# Altium footprint library 15_to_28_Pin.PcbLib: 36 footprints (part 2 of 3)
Each footprint in its own frame and in the unit in brackets; x right, y up, seen from the top. Pads: shape width x height; smd on the part's side, far side on the other; paste and mask are expansions set on the pad; w line width, h text height; cw(c..) or ccw(c..) is an arc to the next point about the centre after c.
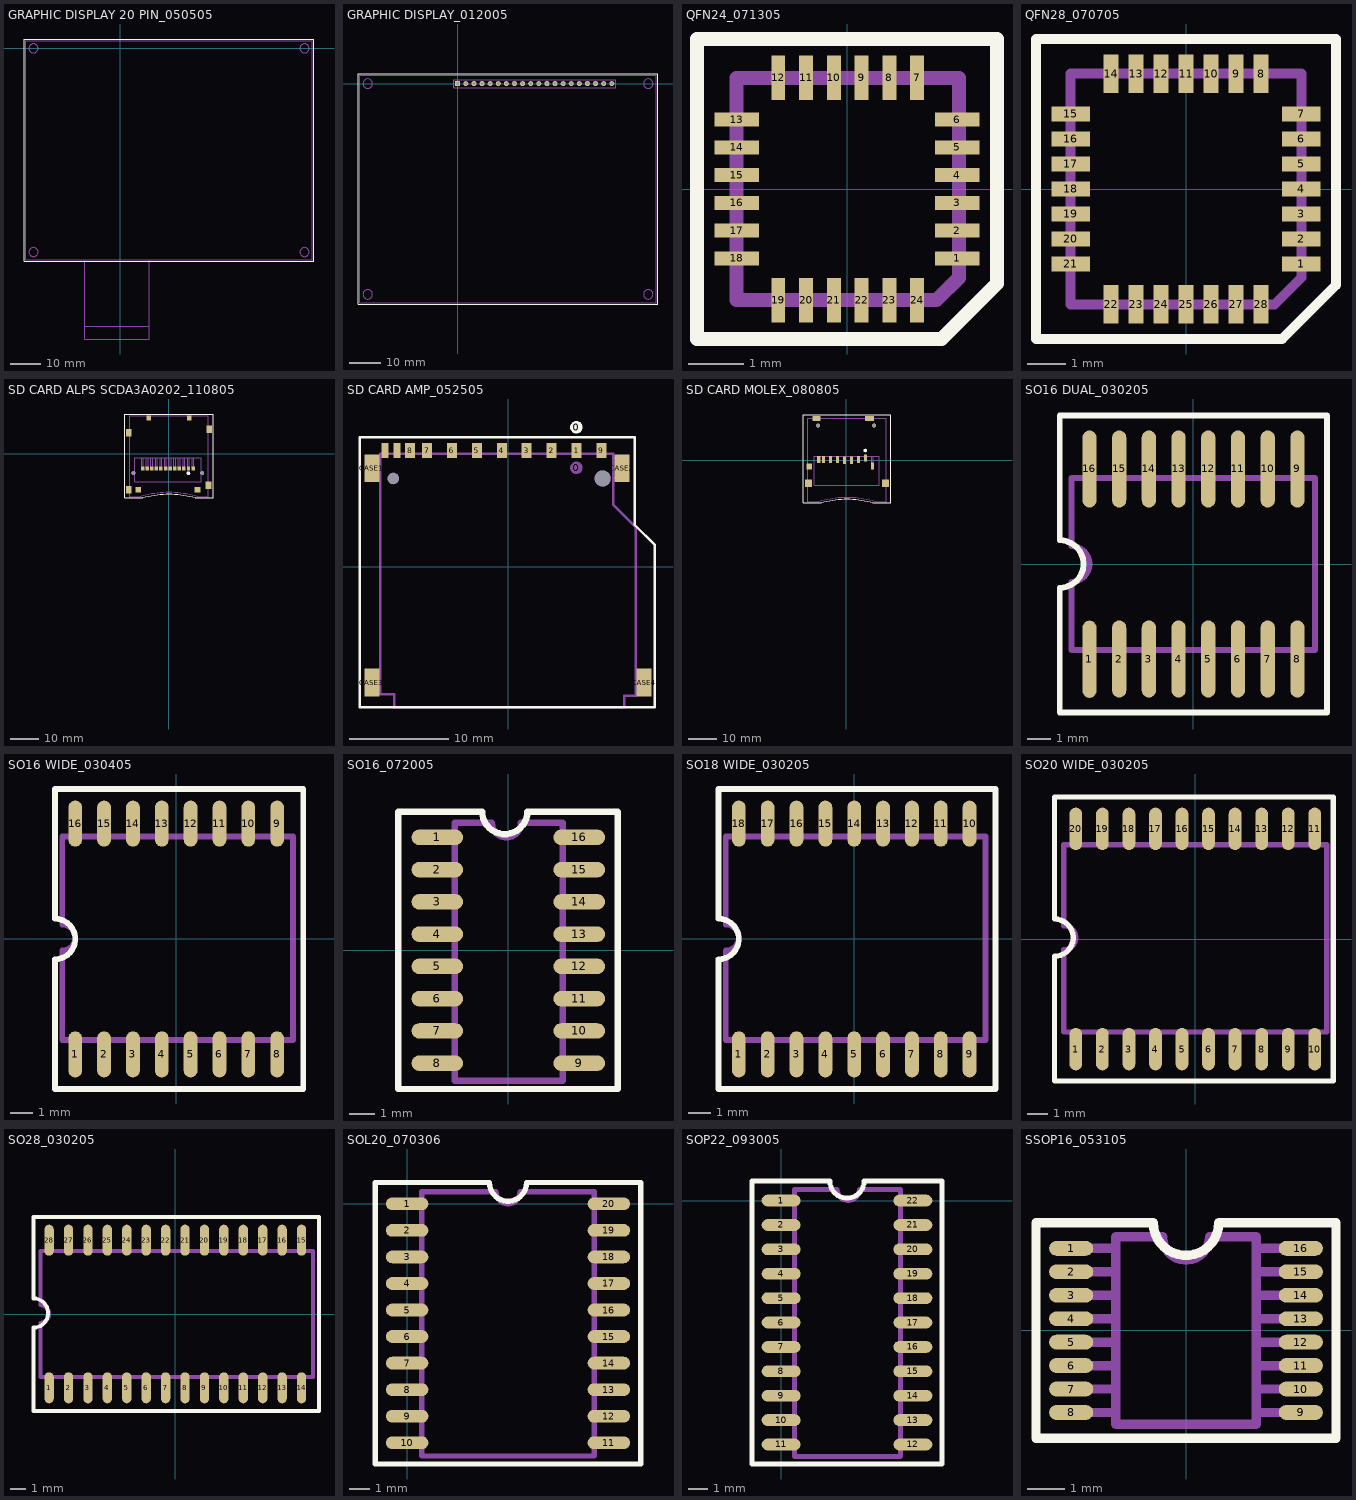
[diagram p1: the footprints below, top view; thin cyan lines are the x and y axes]

## GRAPHIC DISPLAY 20 PIN_050505 [mil] "SMT"
height 375
Top Overlay:
  lines w10: -1230,-2720 -1230,120 -1155,120 2470,120 2470,-2720 -1230,-2720
Assembly Outline:
  circle w10: c-1110,0 r58.66
  circle w10: c-1110,-2600 r58.66
  circle w10: c2350,-2600 r58.66
  circle w10: c2350,0 r58.66
  lines w10: 370,-3550 -455,-3550 -455,-3710 ; 370,-2700 370,-3710 -455,-3710 ; -1210,100 -1110,100 ; -1210,100 -1110,100 ; -1210,100 -1210,-2505 -1210,-2700 -1110,-2700 ; -1110,-2700 2450,-2700 2450,-2600 2450,100 ; -1110,-2700 -455,-2700 -455,-3710 ; -1110,100 2350,100 ; -1110,100 2350,100 ; 2350,100 2450,100 ; 2350,100 2450,100

## GRAPHIC DISPLAY_012005 [mil] "TH"
pads (20):
  rect 62x62 hole 35: 1(0,0)
  round 62 hole 35: 2(100,0) 3(200,0) 4(300,0) 5(400,0) 6(500,0) 7(600,0) 8(700,0) 9(800,0) 10(900,0) 11(1000,0) 12(1100,0) 13(1200,0) 14(1300,0) 15(1400,0) 16(1500,0) 17(1600,0) 18(1700,0) 19(1800,0) 20(1900,0)
Top Overlay:
  lines w10: -1230,-2720 2470,-2720 2470,120 -1155,120 -1230,120 -1230,-2720
Assembly Outline:
  circle w10: c2350,0 r58.66
  circle w10: c2350,-2600 r58.66
  circle w10: c-1110,-2600 r58.66
  circle w10: c-1110,0 r58.66
  lines w8: -50,-50 -50,50 25,50 1950,50 1950,-50 -50,-50
  lines w10: -1210,100 -1210,-2505 -1210,-2700 -1110,-2700 2450,-2700 2450,-2600 2450,100 ; -1210,100 -1110,100 ; -1210,100 -1110,100 ; -1110,100 2350,100 ; -1110,100 2350,100 ; 2350,100 2450,100 ; 2350,100 2450,100
Assembly Designator:
  text ".Designator" at 845,-185 h40
Assembly Comment:
  text ".Comment" at 770,-125 h40

## QFN24_071305 [mm] "SMT"
height 0.75
pads (24):
  rect 0.8x0.25 smd mask+0.038: 1(1.988,-1.25) 2(1.988,-0.75) 3(1.988,-0.25) 4(1.988,0.25) 5(1.988,0.75) 6(1.988,1.25) 13(-1.987,1.25) 14(-1.987,0.75) 15(-1.987,0.25) 16(-1.987,-0.25) 17(-1.987,-0.75) 18(-1.987,-1.25)
  rect 0.25x0.8 smd mask+0.038: 7(1.263,2) 8(0.763,2) 9(0.263,2) 10(-0.237,2) 11(-0.737,2) 12(-1.237,2) 19(-1.237,-2) 20(-0.737,-2) 21(-0.237,-2) 22(0.263,-2) 23(0.763,-2) 24(1.263,-2)
Top Overlay:
  lines w0.254: 2.7,0 2.7,2.7 ; 2.7,2.7 2.7,-1.7 1.7,-2.7 -2.7,-2.7 -2.7,2.7 2.7,2.7
Assembly Outline:
  lines w0.254: 0.013,2 -1.987,2 ; -1.987,2 2.013,2 2.013,-1.6 1.613,-2 -1.987,-2 -1.987,2
Assembly Designator:
  text ".Designator" at -1.05,-0.425 h1.02
Assembly Comment:
  text ".Comment" at -2.7,-3.7 h1.02

## QFN28_070705 [mm] "SMT"
height 0.889
pads (28):
  rect 1x0.381 smd mask+0.038: 1(3,-1.95) 2(3,-1.3) 3(3,-0.65) 4(3,0) 5(3,0.65) 6(3,1.3) 7(3,1.95) 15(-3,1.95) 16(-3,1.3) 17(-3,0.65) 18(-3,0) 19(-3,-0.65) 20(-3,-1.3) 21(-3,-1.95)
  rect 0.381x1 smd mask+0.038: 8(1.95,3) 9(1.3,3) 10(0.65,3) 11(0,3) 12(-0.65,3) 13(-1.3,3) 14(-1.95,3) 22(-1.95,-3) 23(-1.3,-3) 24(-0.65,-3) 25(0,-3) 26(0.65,-3) 27(1.3,-3) 28(1.95,-3)
Top Overlay:
  lines w0.254: 0,-3.9 -3.9,-3.9 ; 3.9,0 3.9,3.9 ; -3.9,-3.9 -3.9,0 -3.9,3.9 0,3.9 3.9,3.9 ; -3.9,-3.9 2.5,-3.9 3.9,-2.5 3.9,3.9
Assembly Outline:
  lines w0.254: 0,3 -3,3 ; -3,3 -3,-3 2.3,-3 3,-2.3 3,3 -3,3
Assembly Designator:
  text ".Designator" at -1.3,-0.4 h1.02
Assembly Comment:
  text ".Comment" at -2.9,-5.1 h1.02

## SD CARD ALPS SCDA3A0202_110805 [mm] "SMT"
height 2.9
pads (24):
  round 1.3 hole 1.3 unplated paste+0 mask+0.038: 0(-12.4,-6.7) 0(11.6,-6.7)
  round 1.27 on Top Overlay paste+0 mask+0.038: 0(6.775,-6.75)
  round 1.27 on Mech1 paste+0 mask+0.038: 0(6.775,-6.75)
  rect 1.2x1.4 smd paste+0 mask+0.038: 1(6.8,-5.1) 2(5.2,-5.1) 3(2,-5.1) 3(3.6,-5.1) 4(-1.2,-5.1) 4(0.4,-5.1) 5(-2.8,-5.1) 6(-4.4,-5.1) 7(-6,-5.1) 8(-7.6,-5.1) 9(8.4,-5.1) WP(-9.2,-5.1)
  rect 2x2 smd paste+0 mask+0.038: CASE1(-10.75,-12.5) CASE2(9.95,-12.5)
  rect 1.6x1.7 smd paste+0 mask+0.038: CASE3(7.05,12.5) CD(-7.05,12.5)
  rect 2x2.6 smd paste+0 mask+0.038: CASE4(-14,-12.5) CASE4(-14,7.3) CASE4(13.75,-10.95) CASE4(14,8.5)
Top Overlay:
  lines w0.254: -15.5,-15.372 -15.5,13.875 15.5,13.875 15.5,-15.372 15.225,-15.372 9.233,-15.372 ccw(c-0.45,-52.405) 0,-14.13 ccw(c0.45,-52.405) -9.233,-15.372 -15.5,-15.372
Assembly Outline:
  lines w0.254: -13.75,-12.7 -14.25,-12.7 -14.25,-12.2 -14.25,-11.7 -13.75,-11.7 ; -13.75,-12.2 -13.75,13.3 ; -13.75,-9.7 -13.75,13.3 ; -13.75,-5.8 -13.75,13.3 ; -13.75,-5.2 -13.75,13.3 ; -13.75,-1.4 -13.75,13.3 ; -13.75,6.95 -14.25,6.95 -14.25,7.45 -14.25,7.95 -13.75,7.95 ; -13.75,11.7 -13.75,13.3 ; -12,13.3 -13.75,13.3 ; -9.725,-1.4 -9.5,-1.4 -9.5,-5.1 -9.2,-5.1 -8.9,-5.1 -8.9,-1.4 ; -7.9,-1.4 -7.9,-5.1 -7.6,-5.1 -7.3,-5.1 -7.3,-1.4 ; -6.3,-1.4 -6.3,-5.1 -6,-5.1 -5.7,-5.1 -5.7,-1.4 ; -4.7,-1.4 -4.7,-5.1 -4.4,-5.1 -4.1,-5.1 -4.1,-1.4 ; -3.1,-1.4 -3.1,-5.1 -2.8,-5.1 -2.5,-5.1 -2.5,-1.4 ; -1.5,-1.4 -1.5,-5.1 -1.2,-5.1 -0.9,-5.1 -0.9,-1.4 ; 0.1,-1.4 0.1,-5.1 0.4,-5.1 0.7,-5.1 0.7,-1.4 ; 1.7,-1.4 1.7,-5.1 2,-5.1 2.3,-5.1 2.3,-1.4 ; 3.3,-1.4 3.3,-5.1 3.6,-5.1 3.9,-5.1 3.9,-1.4 ; 4.9,-1.4 4.9,-5.1 5.2,-5.1 5.5,-5.1 5.5,-1.4 ; 6.5,-1.4 6.5,-5.1 6.8,-5.1 7.1,-5.1 7.1,-1.4 ; 8.1,-1.4 8.1,-5.1 8.4,-5.1 8.7,-5.1 8.7,-1.4 ; 11.25,13.3 13.75,13.3 ; 13.75,-11.45 14.25,-11.45 14.25,-10.95 14.25,-10.45 13.75,-10.45 ; 13.75,-10.95 13.75,13.3 ; 13.75,8.3 14.25,8.3 14.25,8.8 14.25,9.3 13.75,9.3 ; 13.75,8.8 13.75,13.3 ; -13.75,13.3 -13.75,-4.4 -13.75,13.3 ; -13.75,13.3 -13.75,-14.9 -10.001,-14.9 cw(c0.425,-51.73) 0,-13.455 cw(c-0.425,-51.73) 10.001,-14.9 13.75,-14.9 13.75,13.3 ; -13.75,13.3 13.75,13.3 ; -12,-9.7 9.725,-9.7 11.25,-9.7 11.25,-3.5 11.25,-1.4 10.475,-1.4 -12,-1.4 -12,-9.7
Assembly Designator:
  text ".Designator" at -0.6,-0.15 h1.02
Assembly Comment:
  text ".Comment" at -0.55,1.325 h1.02

## SD CARD AMP_052505 [mm] "SMT"
height 3.175
pads (19):
  round 0.4 hole 1.143 unplated paste+0 mask+0.038: 0(-11.5,8.837)
  round 1.27 on Mech1 paste+0 mask+0.038: 0(6.858,9.906)
  round 1.27 on Top Overlay paste+0 mask+0.038: 0(6.858,13.97)
  round 0.4 hole 1.6 unplated paste+0 mask+0.038: 0(9.5,8.837)
  rect 1x1.5 smd paste+0 mask+0.038: 1(6.875,11.637) 2(4.375,11.637) 3(1.875,11.637) 4(-0.625,11.637) 5(-3.125,11.637) 6(-5.625,11.637) 7(-8.125,11.637) 8(-9.825,11.637) 9(9.375,11.637)
  rect 1.5x2.8 smd paste+0 mask+0.038: CASE1(-13.65,9.862) CASE2(11.45,9.862) CASE3(-13.65,-11.637) CASE4(13.65,-11.637)
  rect 0.7x1.5 smd paste+0 mask+0.038: CD(-11.125,11.637) WP(-12.325,11.637)
Top Overlay:
  lines w0.254: -14.859,-14.097 14.732,-14.097 14.732,2.159 12.7,4.191 12.7,12.954 -14.859,12.954 -14.859,-14.097
Assembly Outline:
  circle w0.254: c-11.506,8.839 r0.457
  circle w0.254: c9.5,8.839 r0.686
  rectangle: 9.144,11.303 9.652,12.065
  rectangle: 6.604,11.303 7.112,12.065
  rectangle: 4.115,11.303 4.623,12.065
  rectangle: 1.626,11.303 2.134,12.065
  rectangle: -0.864,11.303 -0.356,12.065
  rectangle: -3.378,11.303 -2.87,12.065
  rectangle: -5.867,11.303 -5.359,12.065
  rectangle: -8.382,11.303 -7.874,12.065
  rectangle: -10.084,11.303 -9.576,12.065
  rectangle: -11.379,11.303 -10.871,12.065
  rectangle: -12.573,11.303 -12.065,12.065
  lines w0.254: -12.827,-12.573 -13.843,-12.573 -13.843,-10.541 -12.827,-10.541 ; -12.827,8.89 -13.843,8.89 -13.843,10.922 -12.827,10.922 ; 10.541,8.89 11.557,8.89 11.557,10.922 10.541,10.922 ; 12.827,-12.573 13.843,-12.573 13.843,-10.541 12.827,-10.541 ; -12.827,-12.827 -11.43,-12.827 -11.43,-14.097 11.684,-14.097 11.684,-12.954 12.827,-12.954 12.827,3.937 10.541,6.223 10.541,11.303 -12.827,11.303 -12.827,-12.827
Assembly Designator:
  text ".Designator" at -2.032,-1.981 h1.02
Assembly Comment:
  text ".Comment" at -7.569,8.052 h1.02

## SD CARD MOLEX_080805 [mm] "SMT"
height 3.1
pads (18):
  round 1.36 hole 1.36 unplated paste+0 mask+0.038: 0(-10.025,12.375) 0(9.975,12.375)
  round 1.27 on Top Overlay paste+0 mask+0.038: 0(6.825,3.475)
  round 1.27 on Mech1 paste+0 mask+0.038: 0(6.825,3.475)
  rect 1.1x2.5 smd paste+0 mask+0.038: 1(6.85,0.8) 2(4.35,0.275) 3(1.85,0) 4(-0.65,0) 5(-3.15,0.275) 6(-5.65,0.275) 7(-8.15,0.275) 8(-9.775,0.275) 9(9.35,-2.125)
  rect 2.5x2.6 smd paste+0 mask+0.038: CASE1(-13.425,-8.225) CASE2(13.975,-8.225)
  rect 2.8x1.7 smd paste+0 mask+0.038: CASE3(-10.575,14.85)
  rect 3.3x1.7 smd paste+0 mask+0.038: CD(8.325,14.85)
  rect 1.95x2.3 smd paste+0 mask+0.038: WP(-13.15,-2.225)
Top Overlay:
  lines w0.254: -15.325,-15.218 -8.933,-15.218 cw(c0.75,-52.25) 0.3,-13.975 cw(c-0.15,-52.25) 9.533,-15.218 15.975,-15.218 15.975,16.3 14.775,16.3 0.325,16.3 -14.125,16.3 -15.325,16.3 -15.325,-15.218
Assembly Outline:
  lines w0.254: -13.7,-9.125 -14.225,-9.125 -14.225,-8.225 -14.225,-7.325 -13.7,-7.325 ; 0.3,15.05 14.3,15.05 ; 6.6,1.45 6.6,-0.125 ; 7.1,1.45 7.1,-0.125 ; 14.3,-9.125 14.775,-9.125 14.775,-8.225 14.775,-7.325 14.3,-7.325 ; -10.025,-0.65 -9.775,-0.65 ; -10.025,-0.65 -10.025,1.45 ; -10.025,-0.65 -10.025,1.45 ; -10.025,-0.65 -9.775,-0.65 ; -10.025,1.45 -9.525,1.45 ; -10.025,1.45 -9.525,1.45 ; -9.775,-0.65 -9.525,-0.65 ; -9.775,-0.65 -9.525,-0.65 ; -9.525,-0.65 -9.525,1.45 ; -9.525,-0.65 -9.525,1.45 ; 6.6,-0.125 6.85,-0.125 7.1,-0.125 ; 6.6,-0.125 7.1,-0.125 ; 14.3,15.05 14.3,-14.745 10.301,-14.745 ccw(c-0.125,-51.575) 0.3,-13.3 ccw(c0.725,-51.575) -9.701,-14.745 -13.7,-14.745 -13.7,1.45 -13.7,15.05 14.3,15.05 ; -11.4,-8.95 -11.4,1.45 11.8,1.45 11.8,-8.95 -11.4,-8.95 ; -8.4,-0.65 -8.4,1.45 -7.9,1.45 -7.9,-0.65 -8.15,-0.65 -8.4,-0.65 ; -5.9,-0.65 -5.9,1.45 -5.4,1.45 -5.4,-0.65 -5.65,-0.65 -5.9,-0.65 ; -3.4,-0.65 -3.4,1.45 -2.9,1.45 -2.9,-0.65 -3.15,-0.65 -3.4,-0.65 ; -0.9,-0.925 -0.9,1.175 -0.9,1.45 -0.4,1.45 -0.4,1.175 -0.4,-0.925 -0.65,-0.925 -0.9,-0.925 ; 1.6,-0.925 1.6,1.175 1.6,1.45 2.1,1.45 2.1,1.175 2.1,-0.925 1.85,-0.925 1.6,-0.925 ; 4.1,-0.65 4.1,1.45 4.6,1.45 4.6,-0.65 4.35,-0.65 4.1,-0.65 ; 9.1,-3.05 9.1,-0.95 9.1,1.45 9.6,1.45 9.6,-0.95 9.6,-3.05 9.35,-3.05 9.1,-3.05
Assembly Designator:
  text ".Designator" at -1.275,4.725 h1.02
Assembly Comment:
  text ".Comment" at -2.625,2.025 h1.02

## SO16 DUAL_030205 [mil] "SMT"
height 100
pads (16):
  oval 24x130 smd mask+1.5: 1(-175,-160.16) 2(-125,-159.84) 3(-75,-159.84) 4(-25,-159.84) 5(25,-159.84) 6(75,-159.84) 7(125,-159.84) 8(175,-159.84) 9(175,160.16) 10(125,160.16) 11(75,160.16) 12(25,160.16) 13(-25,160.16) 14(-75,160.16) 15(-125,160.16) 16(-175,160.16)
Top Overlay:
  lines w10: -225,-249.84 225,-249.84 225,250.16 -225,250.16 -225,40.16 cw(c-225,0.16) -225,-39.84 -225,-249.84
Assembly Outline:
  lines w8: -175,-189.84 -175,-144.84 ; -175,145.16 -175,190.16 ; -125,-189.84 -125,-144.84 ; -125,145.16 -125,190.16 ; -75,-189.84 -75,-144.84 ; -75,145.16 -75,190.16 ; -25,-189.84 -25,-144.84 ; -25,145.16 -25,190.16 ; 25,-189.84 25,-144.84 ; 25,145.16 25,190.16 ; 75,-189.84 75,-144.84 ; 75,145.16 75,190.16 ; 125,-189.84 125,-144.84 ; 125,145.16 125,190.16 ; 175,-189.84 175,-144.84 ; 175,145.16 175,190.16
  lines w10: -205,-144.84 -205,-29.84 ccw(c-205,0.16) -205,30.16 -205,145.16 205,145.16 205,-144.84 -205,-144.84
Assembly Designator:
  text ".Designator" at -64,-13 h40
Assembly Comment:
  text ".Comment" at -157.48,-68.9 h40

## SO16 WIDE_030405 [mil] "SMT"
height 100
pads (16):
  oval 24x80 smd mask+1.5: 1(-175,-200) 2(-125,-200) 3(-75,-200) 4(-25,-200) 5(25,-200) 6(75,-200) 7(125,-200) 8(175,-200) 9(175,200) 10(125,200) 11(75,200) 12(25,200) 13(-25,200) 14(-75,200) 15(-125,200) 16(-175,200)
Top Overlay:
  lines w10: -210,-260 -210,-140 -210,-35 ccw(c-210,0) -210,35 -210,260 220,260 220,-260 -210,-260
Assembly Outline:
  lines w10: -180,177.5 -180,205 -170,205 -170,177.5 ; -170,-175 -170,-202.5 -180,-202.5 -180,-175 ; -130,-175 -130,-202.5 -120,-202.5 -120,-175 ; -130,177.5 -130,205 -120,205 -120,177.5 ; -80,-175 -80,-202.5 -70,-202.5 -70,-175 ; -80,177.5 -80,205 -70,205 -70,177.5 ; -30,-175 -30,-202.5 -20,-202.5 -20,-175 ; -30,177.5 -30,205 -20,205 -20,177.5 ; 20,-175 20,-202.5 30,-202.5 30,-175 ; 20,177.5 20,205 30,205 30,177.5 ; 70,-175 70,-202.5 80,-202.5 80,-175 ; 70,177.5 70,205 80,205 80,177.5 ; 120,-175 120,-202.5 130,-202.5 130,-175 ; 120,177.5 120,205 130,205 130,177.5 ; 170,-175 170,-202.5 180,-202.5 180,-175 ; 170,177.5 170,205 180,205 180,177.5 ; -180,-175 202.5,-175 202.5,177.5 -197.5,177.5 -197.5,25 cw(c-197.5,2.5) -197.5,-20 -197.5,-117.5 -197.5,-175 -180,-175
Assembly Designator:
  text ".Designator" at -47,-15 h40
Assembly Comment:
  text ".Comment" at -166,-140 h40

## SO16_072005 [mil] "SM"
height 70
pads (16):
  oval 80x24 smd mask+1.5: 1(-110,175) 2(-110,125) 3(-110,75) 4(-110,25) 5(-110,-25) 6(-110,-75) 7(-110,-125) 8(-110,-175) 9(110,-175) 10(110,-125) 11(110,-75) 12(110,-25) 13(110,25) 14(110,75) 15(110,125) 16(110,175)
Top Overlay:
  lines w10: -170.46,-215 169.54,-215 169.54,215 29.54,215 cw(c-5.46,215) -40.46,215 -170.46,215 -170.46,-215
Assembly Outline:
  lines w10: -82.96,-180 -110.46,-180 -110.46,-170 -82.96,-170 ; -82.96,-130 -110.46,-130 -110.46,-120 -82.96,-120 ; -82.96,-80 -110.46,-80 -110.46,-70 -82.96,-70 ; -82.96,-30 -110.46,-30 -110.46,-20 -82.96,-20 ; -82.96,20 -110.46,20 -110.46,30 -82.96,30 ; -82.96,70 -110.46,70 -110.46,80 -82.96,80 ; -82.96,120 -110.46,120 -110.46,130 -82.96,130 ; -82.96,170 -110.46,170 -110.46,180 -82.96,180 ; 84.54,-180 112.04,-180 112.04,-170 84.54,-170 ; 84.54,-130 112.04,-130 112.04,-120 84.54,-120 ; 84.54,-80 112.04,-80 112.04,-70 84.54,-70 ; 84.54,-30 112.04,-30 112.04,-20 84.54,-20 ; 84.54,20 112.04,20 112.04,30 84.54,30 ; 84.54,70 112.04,70 112.04,80 84.54,80 ; 84.54,120 112.04,120 112.04,130 84.54,130 ; 84.54,170 112.04,170 112.04,180 84.54,180 ; -82.96,180 -82.96,-202.5 84.54,-202.5 84.54,197.5 19.54,197.5 cw(c-2.96,197.5) -25.46,197.5 -82.96,197.5 -82.96,180
Assembly Designator:
  text ".Designator" at -47.46,-13.98 h40
Assembly Comment:
  text ".Comment" at -149.83,-262.01 h40

## SO18 WIDE_030205 [mil] "SMT"
height 100
pads (18):
  oval 24x80 smd mask+1.5: 1(-200,-200) 2(-150,-200) 3(-100,-200) 4(-50,-200) 5(0,-200) 6(50,-200) 7(100,-200) 8(150,-200) 9(200,-200) 10(200,200) 11(150,200) 12(100,200) 13(50,200) 14(0,200) 15(-50,200) 16(-100,200) 17(-150,200) 18(-200,200)
Top Overlay:
  lines w10: -235,-260 -235,-140 -235,-35 ccw(c-235,0) -235,35 -235,260 245,260 245,-260 -235,-260
Assembly Outline:
  lines w10: -205,177.5 -205,205 -195,205 -195,177.5 ; -195,-175 -195,-202.5 -205,-202.5 -205,-175 ; -155,-175 -155,-202.5 -145,-202.5 -145,-175 ; -155,177.5 -155,205 -145,205 -145,177.5 ; -105,-175 -105,-202.5 -95,-202.5 -95,-175 ; -105,177.5 -105,205 -95,205 -95,177.5 ; -55,-175 -55,-202.5 -45,-202.5 -45,-175 ; -55,177.5 -55,205 -45,205 -45,177.5 ; -5,-175 -5,-202.5 5,-202.5 5,-175 ; -5,177.5 -5,205 5,205 5,177.5 ; 45,-175 45,-202.5 55,-202.5 55,-175 ; 45,177.5 45,205 55,205 55,177.5 ; 95,-175 95,-202.5 105,-202.5 105,-175 ; 95,177.5 95,205 105,205 105,177.5 ; 195,-175 195,-202.5 205,-202.5 205,-175 ; 195,177.5 195,205 205,205 205,177.5 ; -205,-175 227.5,-175 227.5,177.5 -222.5,177.5 -222.5,25 cw(c-222.5,2.5) -222.5,-20 -222.5,-117.5 -222.5,-175 -205,-175 ; 145,-202.5 155,-202.5 ; 145,-202.5 145,-175 145,-202.5 ; 145,-202.5 155,-202.5 ; 145,205 155,205 ; 145,205 145,177.5 145,205 ; 145,205 155,205 ; 155,-202.5 155,-175 155,-202.5 ; 155,205 155,177.5 155,205
Assembly Designator:
  text ".Designator" at -63,-15 h40
Assembly Comment:
  text ".Comment" at -202,-143 h40

## SO20 WIDE_030205 [mil] "SMT"
height 100
pads (20):
  oval 24x80 smd mask+1.5: 1(-225,-207.5) 2(-175,-207.5) 3(-125,-207.5) 4(-75,-207.5) 5(-25,-207.5) 6(25,-207.5) 7(75,-207.5) 8(125,-207.5) 9(175,-207.5) 10(225,-207.5) 11(225,207.5) 12(175,207.5) 13(125,207.5) 14(75,207.5) 15(25,207.5) 16(-25,207.5) 17(-75,207.5) 18(-125,207.5) 19(-175,207.5) 20(-225,207.5)
Top Overlay:
  lines w10: -265,-267.5 -265,-147.5 -265,-32.5 ccw(c-265,2.5) -265,37.5 -265,267.5 260,267.5 260,-267.5 -265,-267.5
Assembly Outline:
  lines w10: -230,177.5 -230,205 -220,205 -220,177.5 ; -220,-175 -220,-202.5 -230,-202.5 -230,-175 ; -180,-175 -180,-202.5 -170,-202.5 -170,-175 ; -180,177.5 -180,205 -170,205 -170,177.5 ; -130,-175 -130,-202.5 -120,-202.5 -120,-175 ; -130,177.5 -130,205 -120,205 -120,177.5 ; -80,-175 -80,-202.5 -70,-202.5 -70,-175 ; -80,177.5 -80,205 -70,205 -70,177.5 ; -30,-175 -30,-202.5 -20,-202.5 -20,-175 ; -30,177.5 -30,205 -20,205 -20,177.5 ; 20,-175 20,-202.5 30,-202.5 30,-175 ; 20,177.5 20,205 30,205 30,177.5 ; 70,-175 70,-202.5 80,-202.5 80,-175 ; 70,177.5 70,205 80,205 80,177.5 ; 120,-175 120,-202.5 130,-202.5 130,-175 ; 120,177.5 120,205 130,205 130,177.5 ; 170,-175 170,-202.5 180,-202.5 180,-175 ; 170,177.5 170,205 180,205 180,177.5 ; 220,-175 220,-202.5 230,-202.5 230,-175 ; 220,177.5 220,205 230,205 230,177.5 ; -230,-175 247.5,-175 247.5,177.5 -247.5,177.5 -247.5,25 cw(c-247.5,2.5) -247.5,-20 -247.5,-117.5 -247.5,-175 -230,-175
Assembly Designator:
  text ".Designator" at -72,-16 h40
Assembly Comment:
  text ".Comment" at -228,-142 h40

## SO28_030205 [mil] "SMT"
height 100
pads (28):
  oval 24x80 smd mask+1.5: 1(-325,-190) 2(-275,-190) 3(-225,-190) 4(-175,-190) 5(-125,-190) 6(-75,-190) 7(-25,-190) 8(25,-190) 9(75,-190) 10(125,-190) 11(175,-190) 12(225,-190) 13(275,-190) 14(325,-190) 15(325,190) 16(275,190) 17(225,190) 18(175,190) 19(125,190) 20(75,190) 21(25,190) 22(-25,190) 23(-75,190) 24(-125,190) 25(-175,190) 26(-225,190) 27(-275,190) 28(-325,190)
Top Overlay:
  lines w10: -365,-250 370,-250 370,250 -365,250 -365,40 cw(c-365,2.5) -365,-35 -365,-250
Assembly Outline:
  lines w10: -330,162.5 -330,190 -320,190 -320,162.5 ; -320,-162.5 -320,-190 -330,-190 -330,-162.5 ; -280,-162.5 -280,-190 -270,-190 -270,-162.5 ; -280,162.5 -280,190 -270,190 -270,162.5 ; -230,-162.5 -230,-190 -220,-190 -220,-162.5 ; -230,162.5 -230,190 -220,190 -220,162.5 ; -180,-162.5 -180,-190 -170,-190 -170,-162.5 ; -180,162.5 -180,190 -170,190 -170,162.5 ; -130,-162.5 -130,-190 -120,-190 -120,-162.5 ; -130,162.5 -130,190 -120,190 -120,162.5 ; -80,-162.5 -80,-190 -70,-190 -70,-162.5 ; -80,162.5 -80,190 -70,190 -70,162.5 ; -30,-162.5 -30,-190 -20,-190 -20,-162.5 ; -30,162.5 -30,190 -20,190 -20,162.5 ; 20,-162.5 20,-190 30,-190 30,-162.5 ; 20,162.5 20,190 30,190 30,162.5 ; 70,-162.5 70,-190 80,-190 80,-162.5 ; 70,162.5 70,190 80,190 80,162.5 ; 120,-162.5 120,-190 130,-190 130,-162.5 ; 120,162.5 120,190 130,190 130,162.5 ; 170,-162.5 170,-190 180,-190 180,-162.5 ; 170,162.5 170,190 180,190 180,162.5 ; 220,-162.5 220,-190 230,-190 230,-162.5 ; 220,162.5 220,190 230,190 230,162.5 ; 270,-162.5 270,-190 280,-190 280,-162.5 ; 270,162.5 270,190 280,190 280,162.5 ; 320,-162.5 320,-190 330,-190 330,-162.5 ; 320,162.5 320,190 330,190 330,162.5 ; -330,-162.5 355,-162.5 355,162.5 -347.5,162.5 -347.5,22.5 cw(c-347.5,0) -347.5,-22.5 -347.5,-162.5 -330,-162.5
Assembly Designator:
  text ".Designator" at -62,-15 h40
Assembly Comment:
  text ".Comment" at -315,-128 h40

## SOL20_070306 [mil] "SMT"
pads (20):
  oval 80x24 smd: 1(0.01,0) 2(0.01,-50) 3(0.01,-100) 4(0.01,-150) 5(0.01,-200) 6(0.01,-250) 7(0.01,-300) 8(0.01,-350) 9(0.01,-400) 10(0.01,-450) 11(380.01,-450) 12(380.01,-400) 13(380.01,-350) 14(380.01,-300) 15(380.01,-250) 16(380.01,-200) 17(380.01,-150) 18(380.01,-100) 19(380.01,-50) 20(380.01,0)
Top Overlay:
  lines w10: -60,-490 440,-490 440,40 225,40 cw(c190,40) 155,40 -60,40 -60,-490
Assembly Outline:
  lines w10: 27.5,-455 0,-455 0,-445 27.5,-445 ; 27.5,-405 0,-405 0,-395 27.5,-395 ; 27.5,-355 0,-355 0,-345 27.5,-345 ; 27.5,-305 0,-305 0,-295 27.5,-295 ; 27.5,-255 0,-255 0,-245 27.5,-245 ; 27.5,-205 0,-205 0,-195 27.5,-195 ; 27.5,-155 0,-155 0,-145 27.5,-145 ; 27.5,-105 0,-105 0,-95 27.5,-95 ; 27.5,-55 0,-55 0,-45 27.5,-45 ; 27.5,-5 0,-5 0,5 27.5,5 ; 352.5,-455 380,-455 380,-445 352.5,-445 ; 352.5,-405 380,-405 380,-395 352.5,-395 ; 352.5,-355 380,-355 380,-345 352.5,-345 ; 352.5,-305 380,-305 380,-295 352.5,-295 ; 352.5,-255 380,-255 380,-245 352.5,-245 ; 352.5,-205 380,-205 380,-195 352.5,-195 ; 352.5,-155 380,-155 380,-145 352.5,-145 ; 352.5,-105 380,-105 380,-95 352.5,-95 ; 352.5,-55 380,-55 380,-45 352.5,-45 ; 352.5,-5 380,-5 380,5 352.5,5 ; 27.5,5 27.5,-475 352.5,-475 352.5,22.5 212.5,22.5 cw(c190,22.5) 167.5,22.5 27.5,22.5 27.5,5

## SOP22_093005 [mil] "SMT"
height 70.87
pads (22):
  oval 80x24 smd mask+1.5: 1(0,0) 2(0,-50) 3(0,-100) 4(0,-150) 5(0,-200) 6(0,-250) 7(0,-300) 8(0,-350) 9(0,-400) 10(0,-450) 11(0,-500) 12(270,-500) 13(270,-450) 14(270,-400) 15(270,-350) 16(270,-300) 17(270,-250) 18(270,-200) 19(270,-150) 20(270,-100) 21(270,-50) 22(270,0)
Top Overlay:
  lines w10: -60,-540 330,-540 330,-490 330,40 170,40 cw(c135,40) 100,40 -60,40 -60,-490 -60,-540
Assembly Outline:
  lines w10: 27.5,-505 0,-505 0,-495 27.5,-495 ; 27.5,-455 0,-455 0,-445 27.5,-445 ; 27.5,-405 0,-405 0,-395 27.5,-395 ; 27.5,-355 0,-355 0,-345 27.5,-345 ; 27.5,-305 0,-305 0,-295 27.5,-295 ; 27.5,-255 0,-255 0,-245 27.5,-245 ; 27.5,-205 0,-205 0,-195 27.5,-195 ; 27.5,-155 0,-155 0,-145 27.5,-145 ; 27.5,-105 0,-105 0,-95 27.5,-95 ; 27.5,-55 0,-55 0,-45 27.5,-45 ; 27.5,-5 0,-5 0,5 27.5,5 ; 245,-505 272.5,-505 272.5,-495 245,-495 ; 245,-455 272.5,-455 272.5,-445 245,-445 ; 245,-405 272.5,-405 272.5,-395 245,-395 ; 245,-355 272.5,-355 272.5,-345 245,-345 ; 245,-305 272.5,-305 272.5,-295 245,-295 ; 245,-255 272.5,-255 272.5,-245 245,-245 ; 245,-205 272.5,-205 272.5,-195 245,-195 ; 245,-155 272.5,-155 272.5,-145 245,-145 ; 245,-105 272.5,-105 272.5,-95 245,-95 ; 245,-55 272.5,-55 272.5,-45 245,-45 ; 245,-5 272.5,-5 272.5,5 245,5 ; 27.5,5 27.5,-475 27.5,-525 245,-525 245,-475 245,22.5 160,22.5 cw(c137.5,22.5) 115,22.5 27.5,22.5 27.5,5
Assembly Designator:
  text ".Designator" at 97.87,-260.08 h40
Assembly Comment:
  text ".Comment" at -45.28,-595.47 h40

## SSOP16_053105 [mil] "SMT"
height 70
pads (16):
  oval 47.24x15.75 smd mask+1.5: 1(-122.5,87.5) 2(-122.5,62.5) 3(-122.5,37.5) 4(-122.5,12.5) 5(-122.5,-12.5) 6(-122.5,-37.5) 7(-122.5,-62.5) 8(-122.5,-87.5) 9(122.5,-87.5) 10(122.5,-62.5) 11(122.5,-37.5) 12(122.5,-12.5) 13(122.5,12.5) 14(122.5,37.5) 15(122.5,62.5) 16(122.5,87.5)
Top Overlay:
  lines w10: -160,-115 -160,0 -160,115 -35,115 ccw(c0,115) 35,115 160,115 160,0 160,-115 -60,-115 -160,-115
Assembly Outline:
  lines w10: -122.5,-87.5 -75,-87.5 ; -122.5,-62.5 -75,-62.5 ; -122.5,-37.5 -75,-37.5 ; -122.5,-12.5 -75,-12.5 ; -122.5,12.5 -75,12.5 ; -122.5,37.5 -75,37.5 ; -122.5,62.5 -75,62.5 ; -122.5,87.5 -75,87.5 ; 75,-87.5 122.5,-87.5 ; 75,-62.5 122.5,-62.5 ; 75,-37.5 122.5,-37.5 ; 75,-12.5 122.5,-12.5 ; 75,12.5 122.5,12.5 ; 75,37.5 122.5,37.5 ; 75,62.5 122.5,62.5 ; 75,87.5 122.5,87.5 ; -75,-100 75,-100 75,0 75,100 25,100 cw(c0,100) -25,100 -75,100 -75,-100
Assembly Designator:
  text ".Designator" at -35,-15 h40
Assembly Comment:
  text ".Comment" at -155,-150 h40